# EAGLE library part SST26VF064B (library CPSS_IC)
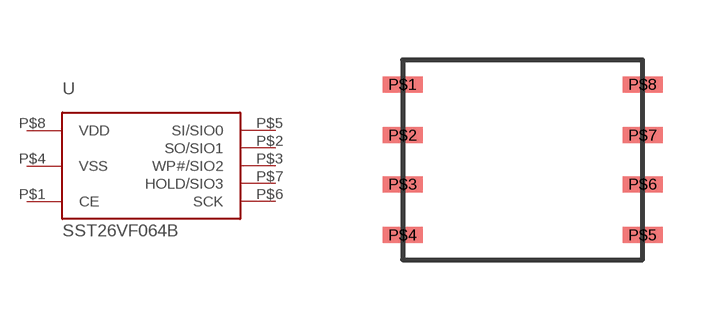
[diagram p8: symbol with the pads of SOIJ; footprint SOIJ]

Designator prefix U

## SST26VF064B  [SOIJ]
P$1  CE
P$2  SO/SIO1
P$3  WP#/SIO2
P$4  VSS
P$5  SI/SIO0
P$6  SCK
P$7  HOLD/SIO3
P$8  VDD

## Footprint SOIJ (pad centres in mm)
smd 1 x 0.4: P$1 -3,1.885; P$2 -3,0.614; P$3 -3,-0.614; P$4 -3,-1.885; P$5 3,-1.885; P$6 3,-0.614; P$7 3,0.614; P$8 3,1.885